# Altium schematic symbol library Inductor.SchLib: 2 symbols
Pins are listed as number, name and electrical type; pins without a type are passive.

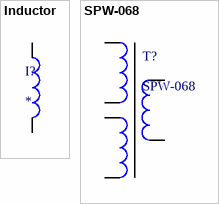
[diagram p0: symbols Inductor to SPW-068]

## Inductor
designator I?
footprint INDUCTOR
footprint DO3316P
footprint I0402 (Chip Resistor, Body 1.0x0.5mm, IPC Low Density)
footprint I0603 (Chip Resistor, Body 1.6x0.8mm, IPC Low Density)
footprint I0805 (Chip Resistor, Body 2.0x1.3mm, IPC Low Density)
footprint I1206 (Chip Resistor, Body 3.2x1.6mm, IPC Low Density)
footprint 6x6x2.8mm
pins: 1, 2

## SPW-068
designator T?
footprint SPW-068
pins: 1, 2, 3, 4, 5, 6